# Altium schematic symbol library PWMController.SchLib: 1 symbol
Pins are listed as number, name and electrical type; pins without a type are passive.

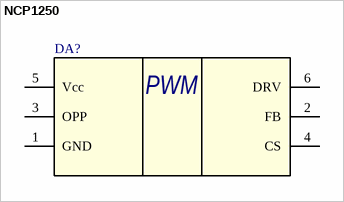
[diagram p0: symbol NCP1250]

## NCP1250
designator DA?
PWM Controller, Current  Mode, for Offline Power  Supplies
pins: 1 GND (power), 2 FB (power), 3 OPP (power), 4 CS (power), 5 Vcc (power), 6 DRV (power)
text: PWM